# Altium integrated library comparators.IntLib: 8 symbols
Pins are listed as number, name and electrical type; pins without a type are passive.

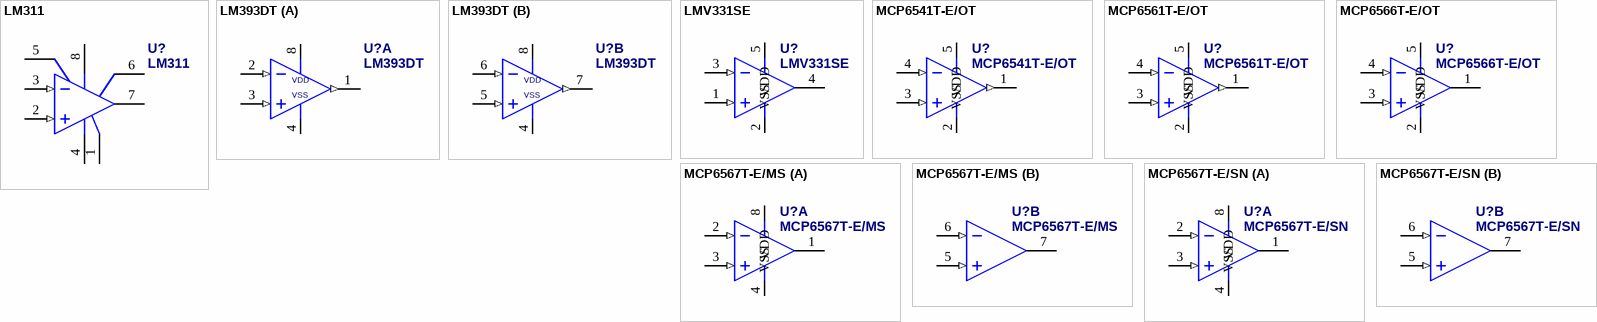
[diagram p0: symbols LM311 to MCP6567T-E/SN]

## LM311
designator U?
Voltage Comparator; Published: 15-Jan-2007; PackageReference: SO-8
footprint SO8 (Small Outline; 8 Leads; Body Width 3.7 mm; Pitch 1.27 mm)
pins: 1 GND (power), 2 IN+ (in), 3 IN- (in), 4 V- (CASE) (power), 5 BAL, 6 BAL/STB, 7 OUT (oc), 8 V+ (power)

## LM393DT
designator U?
Low power dual voltage comparators; Published: 03-Apr-2006
footprint SO8 (Small Outline; 8 Leads; Body Width 3.7 mm; Pitch 1.27 mm)
pins on every part: 4 GND (power), 8 V+ (power)
part A pins: 1 OUT (out), 2 IN- (in), 3 IN+ (in)
part B pins: 5 IN+ (in), 6 IN- (in), 7 OUT (out)
part A text: VDD; VSS
part B text: VDD; VSS

## LMV331SE
designator U?
1.8V Low-Power Open Drain Output Comparator; Supplier 1: TME; Supplier 2: Mouser; Supplier Part Number 1: LMV331SE-7; Supplier Part Number 2: 621-LMV331SE7
footprint SOT-323-5 (SOT-353, SC70-5) (SOT-353/SC-88A; 5 Leads; Body 2.2 x 2.2 mm, inc. leads (LxW max))
pins: 1 IN+ (in), 2 VSS (power), 3 IN- (in), 4 OUT (oc), 5 VDD (power)
1 alternate drawing of the same symbol

## MCP6541T-E/OT
designator U?
Push-Pull Output Sub-Microamp Comparators; Supplier 1: Farnell; Supplier 2: Farnell; Supplier 3: TME; Supplier 4: Mouser; Supplier 5: Mouser; Supplier Part Number 1: 1332136; Supplier Part Number 2: 1332136RL; Supplier Part Number 3: MCP6541T-E/OT; Supplier Part Number 4: 579-MCP6541T-I/LT; Supplier Part Number 5: 579-MCP6541T-E/OT
footprint SOT-23-5 (, AKA: SOT753 (NXP), TSOP5 (NXP))
pins: 1 OUT (out), 2 VSS (power), 3 IN+ (in), 4 IN- (in), 5 VDD (power)
1 alternate drawing of the same symbol

## MCP6561T-E/OT
designator U?
1.8V Low-Power Push-Pull Output Comparator; Supplier 1: Farnell; Supplier 2: TME; Supplier 3: Farnell; Supplier 4: Farnell; Supplier 5: Farnell; Supplier 6: Farnell; Supplier 7: Farnell; Supplier Part Number 1: 1715874RL; Supplier Part Number 2: MCP6561T-E/OT; Supplier Part Number 3: 2479174; Supplier Part Number 4: 1715874; Supplier Part Number 5: 1834857RL; Supplier Part Number 6: 2394592; Supplier Part Number 7: 1834857
footprint SOT-23-5 (, AKA: SOT753 (NXP), TSOP5 (NXP))
pins: 1 OUT (out), 2 VSS (power), 3 IN+ (in), 4 IN- (in), 5 VDD (power)
1 alternate drawing of the same symbol

## MCP6566T-E/OT
designator U?
1.8V Low-Power Open Drain Output Comparator; Supplier 1: Farnell; Supplier 2: Farnell; Supplier Part Number 1: 1715878; Supplier Part Number 2: 1715878RL
footprint SOT-23-5 (, AKA: SOT753 (NXP), TSOP5 (NXP))
pins: 1 OUT (oc), 2 VSS (power), 3 IN+ (in), 4 IN- (in), 5 VDD (power)
1 alternate drawing of the same symbol

## MCP6567T-E/MS
designator U?
1.8V Low-Power Open Drain Output Comparator; Supplier 1: Mouser; Supplier Part Number 1: 579-MCP6567T-E/MS
footprint MSOP8_0.65mm (0.65mm PITCH MSOP8)
part A pins: 1 OUT (oc), 2 IN- (in), 3 IN+ (in), 4 VSS (power), 8 VDD (power)
part B pins: 5 IN+ (in), 6 IN- (in), 7 OUT (oc)
1 alternate drawing of the same symbol

## MCP6567T-E/SN
designator U?
1.8V Low-Power Open Drain Output Comparator; Supplier 1: Mouser; Supplier Part Number 1: 579-MCP6567T-E/SN
footprint SO8 (Small Outline; 8 Leads; Body Width 3.7 mm; Pitch 1.27 mm)
part A pins: 1 OUT (oc), 2 IN- (in), 3 IN+ (in), 4 VSS (power), 8 VDD (power)
part B pins: 5 IN+ (in), 6 IN- (in), 7 OUT (oc)
1 alternate drawing of the same symbol